# EAGLE library part ST485BDR (library ST485BDR)
Transceiver
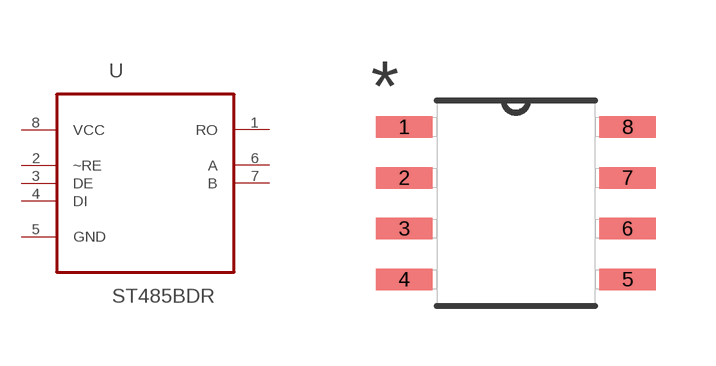
[diagram p0: symbol with the pads of SOIC127P600X175-8N; footprint SOIC127P600X175-8N]

Designator prefix U

## ST485BDR (Availability: Good; Description: ST485B 5 V 2.5 Mbps Low Power RS-485/RS-422 Transceiver - SOIC-8 (- 40 to 85 °C); MF: STMicroelectronics; MP: ST485BDR; Package: SOIC-8 STMicroelectronics; Price: Average Price: $0.44 USD)  [SOIC127P600X175-8N]
1  RO  out
2  ~RE  in
3  DE  in
4  DI  in
5  GND  pas
6  A
7  B
8  VCC  pwr

## Footprint SOIC127P600X175-8N (pad centres in mm)
smd 1.422 x 0.533: 1 -2.794,1.905; 2 -2.794,0.635; 3 -2.794,-0.635; 4 -2.794,-1.905; 5 2.794,-1.905; 6 2.794,-0.635; 7 2.794,0.635; 8 2.794,1.905